# Altium footprint library LQFP50P1400X1400X160-81N.PcbLib: 1 footprints
Each footprint in its own frame and in the unit in brackets; x right, y up, seen from the top. Pads: shape width x height; smd on the part's side, far side on the other; paste and mask are expansions set on the pad; w line width, h text height; cw(c..) or ccw(c..) is an arc to the next point about the centre after c.
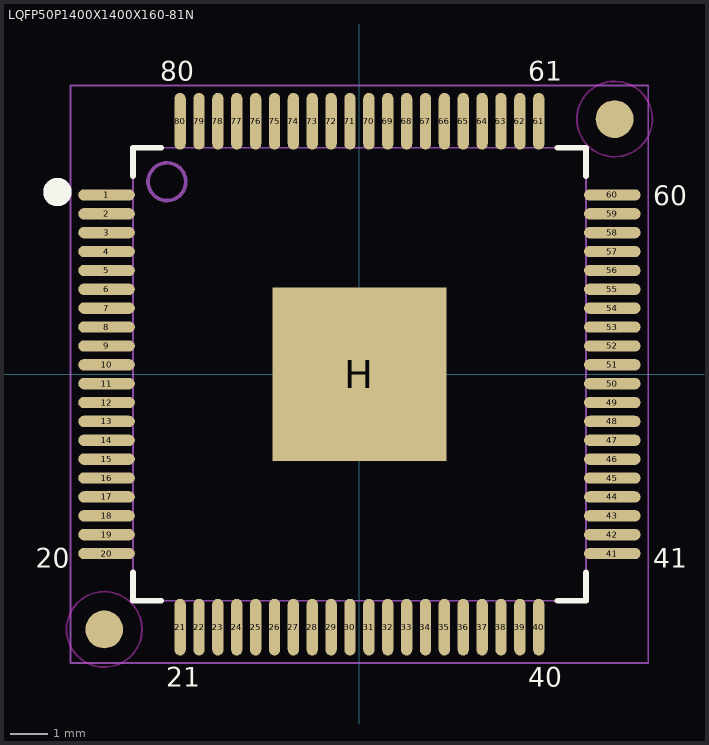
[diagram p0: the footprint, top view; thin cyan lines are the x and y axes]

## LQFP50P1400X1400X160-81N [mm] "TSQFP, 80-Leads, Body 12.00x12.00mm, Pitch 0.50mm, Thermal Pad 4.60x4.60mm, IPC Medium Density"
height 1.6
pads (83):
  oval 1.5x0.3 smd mask+0.051: 1(-6.7,4.75) 2(-6.7,4.25) 3(-6.7,3.75) 4(-6.7,3.25) 5(-6.7,2.75) 6(-6.7,2.25) 7(-6.7,1.75) 8(-6.7,1.25) 9(-6.7,0.75) 10(-6.7,0.25) 11(-6.7,-0.25) 12(-6.7,-0.75) 13(-6.7,-1.25) 14(-6.7,-1.75) 15(-6.7,-2.25) 16(-6.7,-2.75) 17(-6.7,-3.25) 18(-6.7,-3.75) 19(-6.7,-4.25) 20(-6.7,-4.75) 41(6.7,-4.75) 42(6.7,-4.25) 43(6.7,-3.75) 44(6.7,-3.25) 45(6.7,-2.75) 46(6.7,-2.25) 47(6.7,-1.75) 48(6.7,-1.25) 49(6.7,-0.75) 50(6.7,-0.25) 51(6.7,0.25) 52(6.7,0.75) 53(6.7,1.25) 54(6.7,1.75) 55(6.7,2.25) 56(6.7,2.75) 57(6.7,3.25) 58(6.7,3.75) 59(6.7,4.25) 60(6.7,4.75)
  oval 0.3x1.5 smd mask+0.051: 21(-4.75,-6.7) 22(-4.25,-6.7) 23(-3.75,-6.7) 24(-3.25,-6.7) 25(-2.75,-6.7) 26(-2.25,-6.7) 27(-1.75,-6.7) 28(-1.25,-6.7) 29(-0.75,-6.7) 30(-0.25,-6.7) 31(0.25,-6.7) 32(0.75,-6.7) 33(1.25,-6.7) 34(1.75,-6.7) 35(2.25,-6.7) 36(2.75,-6.7) 37(3.25,-6.7) 38(3.75,-6.7) 39(4.25,-6.7) 40(4.75,-6.7) 61(4.75,6.7) 62(4.25,6.7) 63(3.75,6.7) 64(3.25,6.7) 65(2.75,6.7) 66(2.25,6.7) 67(1.75,6.7) 68(1.25,6.7) 69(0.75,6.7) 70(0.25,6.7) 71(-0.25,6.7) 72(-0.75,6.7) 73(-1.25,6.7) 74(-1.75,6.7) 75(-2.25,6.7) 76(-2.75,6.7) 77(-3.25,6.7) 78(-3.75,6.7) 79(-4.25,6.7) 80(-4.75,6.7)
  rect 4.6x4.6 smd paste-5 mask+0.051: H(0,0)
  round 1 smd paste-2 mask+0.5: ""(-6.759,-6.759) ""(6.759,6.759)
Top Overlay:
  circle w0.5: c-8.001,4.826 r0.125
  lines w0.152: -6,-5.25 -6,-6 -5.25,-6 ; -6,5.25 -6,6 -5.25,6 ; 5.25,-6 6,-6 6,-5.25 ; 5.25,6 6,6 6,5.25
  text "80" at -5.273,7.777 h0.51
  text "61" at 4.477,7.777 h0.51
  text "60" at 7.777,4.477 h0.51
  text "41" at 7.777,-5.123 h0.51
  text "40" at 4.477,-8.273 h0.51
  text "21" at -5.123,-8.273 h0.51
  text "20" at -8.573,-5.123 h0.51
Top Paste:
  rectangle: 0.15,0.15 2.1,2.1
  rectangle: 0.15,0.15 2.1,2.1
  rectangle: -2.1,0.15 -0.15,2.1
  rectangle: 0.15,-2.1 2.1,-0.15
  rectangle: -2.1,-2.1 -0.15,-0.15
Keep-Out Layer:
  circle w0.05: c6.759,6.759 r1
  circle w0.05: c-6.759,-6.759 r1
Mechanical 13:
  circle w0.5: c-8.001,4.826 r0.125
  circle w0.1: c-5.1,5.1 r0.5
  lines w0.05: -6,-6 6,-6 6,6 -6,6 -6,-6
  text "80" at -5.273,7.777 h0.51
  text "61" at 4.477,7.777 h0.51
  text "60" at 7.777,4.477 h0.51
  text "41" at 7.777,-5.123 h0.51
  text "40" at 4.477,-8.273 h0.51
  text "21" at -5.123,-8.273 h0.51
  text "20" at -8.573,-5.123 h0.51
Mechanical 15:
  lines w0.05: -7.65,-7.65 7.65,-7.65 7.65,7.65 -7.65,7.65 -7.65,-7.65
3D body "LQFP50P1400X1400X160-81N.step": height 1.5, standoff 0, extent -7,-7 7,7